# Altium schematic symbol library Macro.SchLib: 2 symbols
Pins are listed as number, name and electrical type; pins without a type are passive.

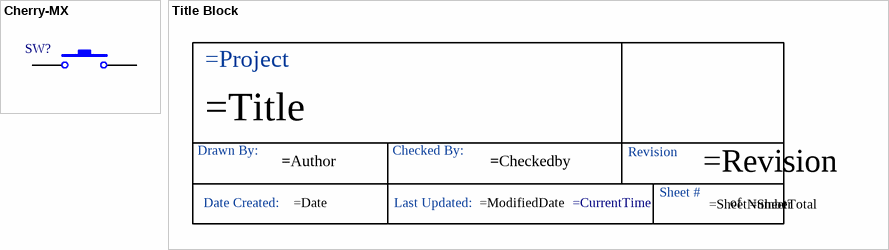
[diagram p0: symbols Cherry-MX to Title Block]

## Cherry-MX
designator SW?
footprint CHERRYMX_1.00u_HotSwap
pins: 1, 2

## Title Block
designator ?
text: Drawn By:; Checked By:; Revision; Sheet #; Date Created:; Last Updated:; of